# EAGLE library part FEATHER-NRF52832 (library Distance_Lapse_Camera_Trigger_v38)
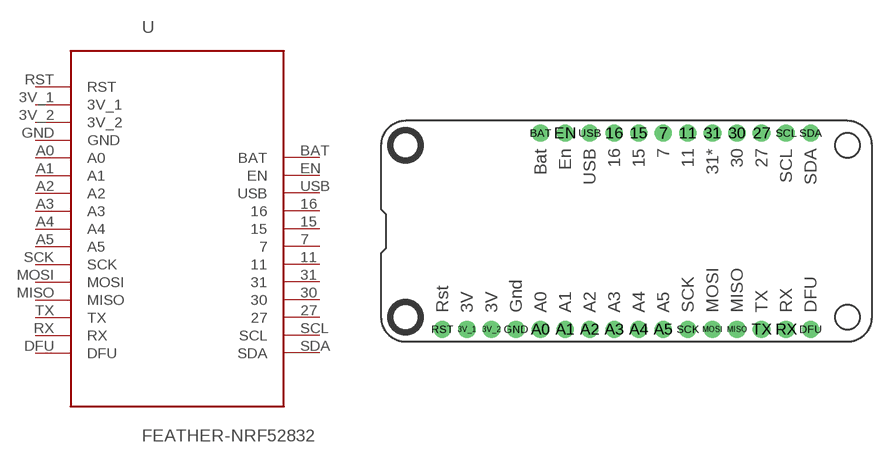
[diagram p2: symbol with the pads of FEATHER-NRF52832; footprint FEATHER-NRF52832]

Designator prefix -

## FEATHER-NRF52832  [FEATHER-NRF52832]
3V_1  3V_1  pwr
3V_2  3V_2  pwr
7  7
11  11
15  15
16  16
27  27
30  30
31  31
A0  A0
A1  A1
A2  A2
A3  A3
A4  A4
A5  A5
BAT  BAT  pwr
DFU  DFU
EN  EN  pwr
GND  GND  pwr
MISO  MISO
MOSI  MOSI
RST  RST
RX  RX
SCK  SCK
SCL  SCL
SDA  SDA
TX  TX
USB  USB  pwr

## Footprint FEATHER-NRF52832 (pad centres in mm)
drill 1 pad 1.778: 3V_1 8.89,1.27; 3V_2 11.43,1.27; 7 29.21,21.59; 11 31.75,21.59; 15 26.67,21.59; 16 24.13,21.59; 27 39.37,21.59; 30 36.83,21.59; 31 34.29,21.59; A0 16.51,1.27; A1 19.05,1.27; A2 21.59,1.27; A3 24.13,1.27; A4 26.67,1.27; A5 29.21,1.27; BAT 16.51,21.59; DFU 44.45,1.27; EN 19.05,21.59; GND 13.97,1.27; MISO 36.83,1.27; MOSI 34.29,1.27; RST 6.35,1.27; RX 41.91,1.27; SCK 31.75,1.27; SCL 41.91,21.59; SDA 44.45,21.59; TX 39.37,1.27; USB 21.59,21.59